# Altium schematic symbol library ERJ-1GNF8250C.SchLib: 1 symbol
Pins are listed as number, name and electrical type; pins without a type are passive.

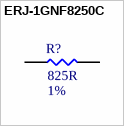
[diagram p0: symbol ERJ-1GNF8250C]

## ERJ-1GNF8250C
designator R?  Resistance: 825R  Tolerance: 1%  (hidden comment: ERJ-1GNF8250C)
RES SMD 825 OHM 1% 1/20W 0201; MFR: Panasonic Electronic Components; PN: ERJ-1GNF8250C; Footprint: RES0201; Package: 0201; ComponentLink1Description: Datasheet; Power Rating: 1/20W; Supplier 1: Mouser; Supplier Part Number 1: 667-ERJ-1GNF8250C
footprint RES0201 (A generic 0201 footprint)
pins: 1, 2